# Altium integrated library Analog Devices Data Converters Digital-to-Analog Converters.IntLib: 2231 symbols (part 68 of 181)
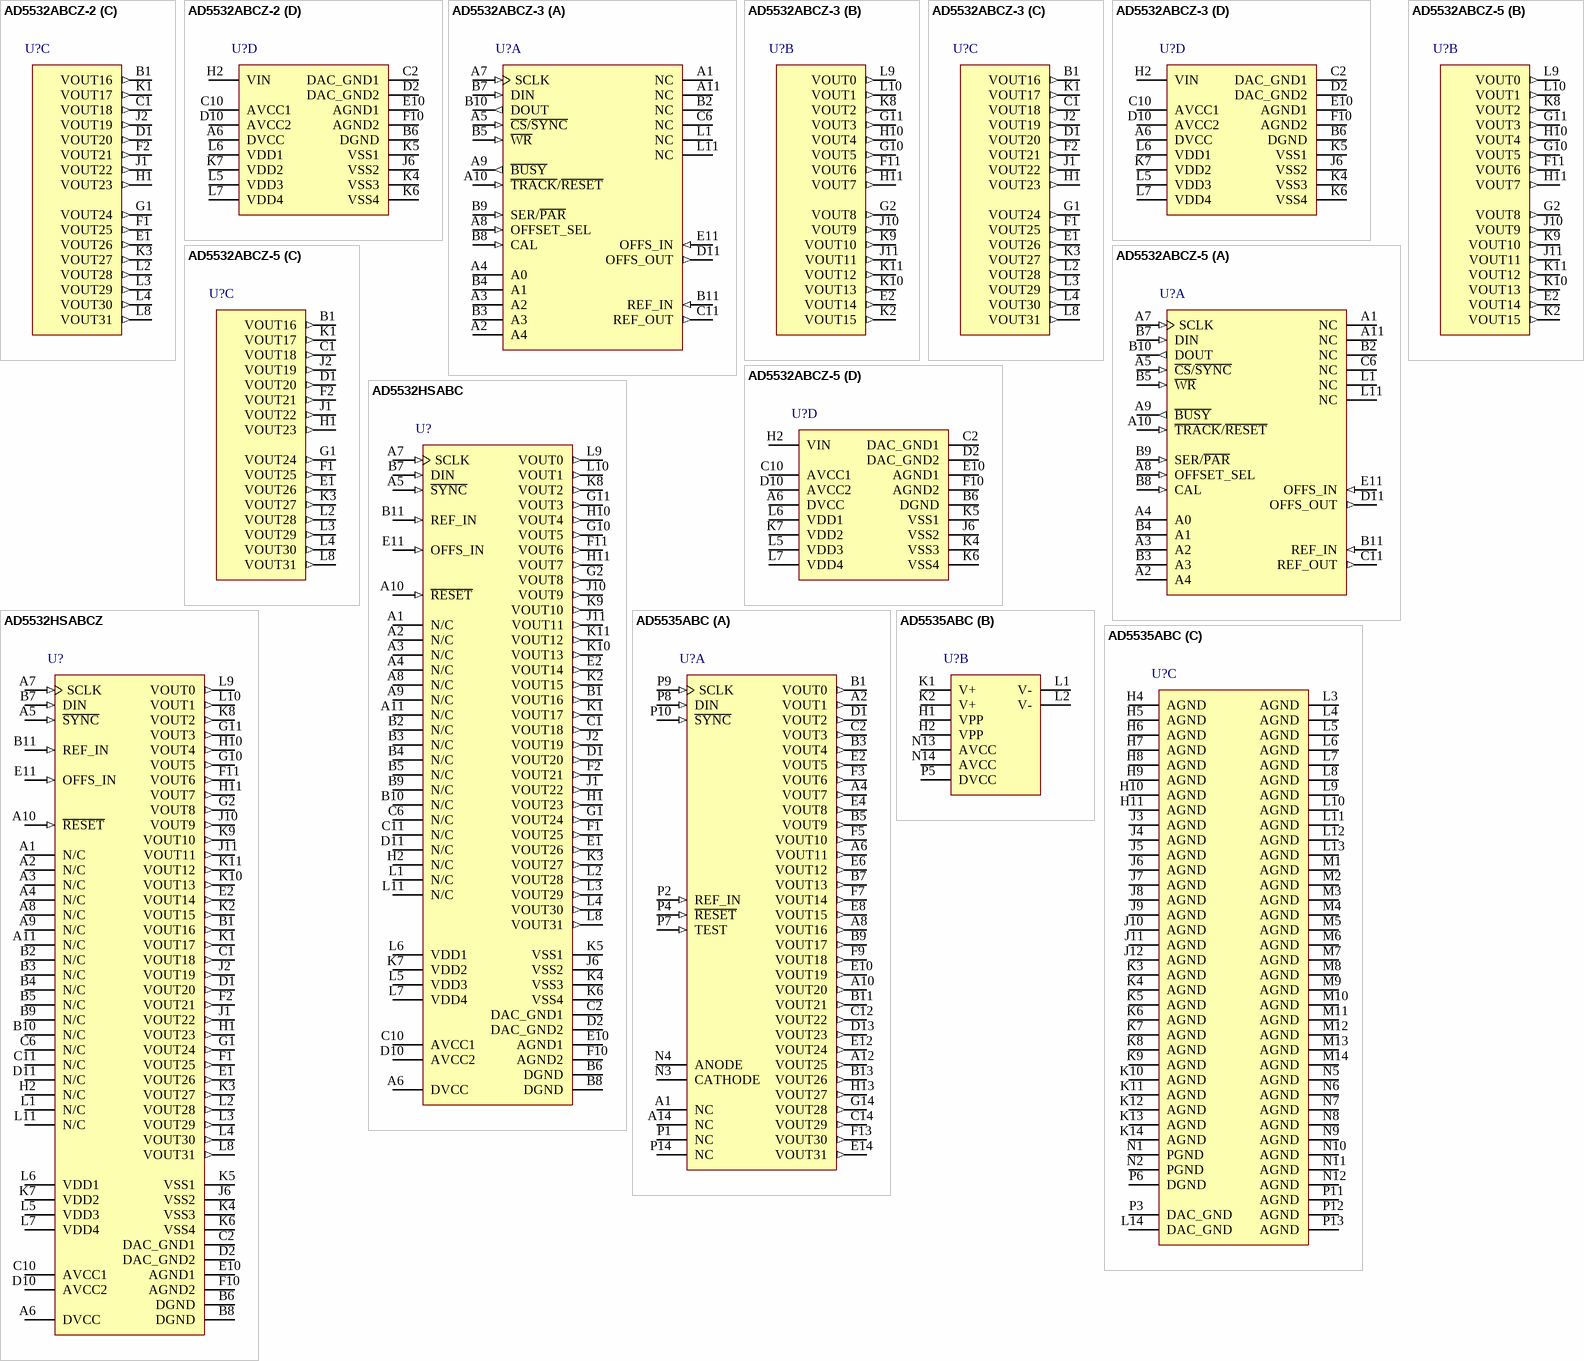
[diagram p181: symbols AD5532ABCZ-2 to AD5535ABC]

## AD5532HSABCZ
designator U?
32 Channel 14-Bit Digital-to-Analog Converter with High-Speed 3-Wire Serial Interface, -40 to +85 degC, BC-74, Pb-Free, Tray; Generic Part Number: AD5532HS; Manufacturer: Analog Devices; PartNumber: AD5532HSABCZ; # DAC Outputs: 32; Max V+: 12V; Op Pwr Diss: 341mW; Resolution (Bits): 14; Settling Time: 10µs; Single Supply: No; DatasheetVersion: Rev.0; PackageVersion: 061306-A; PackageReference: BC-74; PackageDescription: 74-Ball Chip Scale Package Ball Grid Array [CSP_BGA]; Supplier 1: Digi-Key; Supplier Part Number 1: AD5532HSABCZ-ND; Supplier 2: Newark; Supplier Part Number 2: 12M8551; Supplier 3: Mouser; Supplier Part Number 3: 584-AD5532HSABCZ; Packing: Tray; RoHS: Y; Mounting Technology: Surface Mount; Code_JEDEC: MO-192-ABD-1; ComponentLink1Description: Manufacturer URL; ComponentLink1URL: http://www.analog.com/en/index.html; ComponentLink2Description: Datasheet; ComponentLink2URL: http://www.analog.com/static/imported-files/data_sheets/AD5532HS.pdf; ComponentLink3Description: Package Specification; ComponentLink3URL: http://www.analog.com/static/imported-files/packages/466795438540441203902150BC_74.pdf; ComponentLink4Description: Product URL; ComponentLink4URL: http://www.analog.com/en/digital-to-analog-converters/da-converters/ad5532hs/products/product.html
footprint BC-74 (BGA, 74-Leads, Body 12x12mm, Pitch 1mm)
pins: A1  N/C "No connect", A2  N/C "No connect", A3  N/C "No connect", A4  N/C "No connect", A5  ~{SYNC} (in) "Active Low Input. This is the Frame Synchronization signal for the serial interface. While S\Y\N\C\ is low,data is transferred in on the falling edge of SCLK.", A6  DVCC (power) "Digital Supply Pins. Voltage range from 2.7 V to 5.25 V.", A7  SCLK (in) "Serial Clock Input. Data is clocked into the shift register on the falling edge of SCLK. This operates at clock speeds up to 30 MHz.", A8  N/C "No connect", A9  N/C "No connect", A10  ~{RESET} (in) "Active Low Input. This pin can also be used to reset the complete device to its power-on-reset conditions.", A11  N/C "No connect", B1  VOUT16 (out) "Analog Output Voltage from the 32 Channels.", B2  N/C "No connect", B3  N/C "No connect", B4  N/C "No connect", B5  N/C "No connect", B6  DGND (power) "Digital GND Pin.", B7  DIN (in) "Serial Data Input. Data must be valid on the falling edge of SCLK.", B8  DGND (power) "Digital GND Pin.", B9  N/C "No connect", B10  N/C "No connect", B11  REF_IN (in) "Reference Voltage for Channels 0-31.", C1  VOUT18 (out) "Analog Output Voltage from the 32 Channels.", C2  DAC_GND1 (power) "Reference GND Supply for All the DACs.", C6  N/C "No connect", C10  AVCC1 (power) "Analog Supply Pin. Voltage range from 4.75 V to 5.25 V.", C11  N/C "No connect", D1  VOUT20 (out) "Analog Output Voltage from the 32 Channels.", D2  DAC_GND2 (power) "Reference GND Supply for All the DACs.", D10  AVCC2 (power) "Analog Supply Pin. Voltage range from 4.75 V to 5.25 V.", D11  N/C "No connect", E1  VOUT26 (out) "Analog Output Voltage from the 32 Channels.", E2  VOUT14 (out) "Analog Output Voltage from the 32 Channels.", E10  AGND1 (power) "Analog GND Pin.", E11  OFFS_IN (in) "Offset Input. The user can connect this to GND or REF_IN to determine the output span.", F1  VOUT25 (out) "Analog Output Voltage from the 32 Channels.", F2  VOUT21 (out) "Analog Output Voltage from the 32 Channels.", F10  AGND2 (power) "Analog GND Pin.", F11  VOUT6 (out) "Analog Output Voltage from the 32 Channels.", G1  VOUT24 (out) "Analog Output Voltage from the 32 Channels.", G2  VOUT8 (out) "Analog Output Voltage from the 32 Channels.", G10  VOUT5 (out) "Analog Output Voltage from the 32 Channels.", G11  VOUT3 (out) "Analog Output Voltage from the 32 Channels.", H1  VOUT23 (out) "Analog Output Voltage from the 32 Channels.", H2  N/C "No connect", H10  VOUT4 (out) "Analog Output Voltage from the 32 Channels.", H11  VOUT7 (out) "Analog Output Voltage from the 32 Channels.", J1  VOUT22 (out) "Analog Output Voltage from the 32 Channels.", J2  VOUT19 (out) "Analog Output Voltage from the 32 Channels.", J6  VSS2 (power) "VSS Supply Pin. Voltage range from -4.75 V to -12 V.", J10  VOUT9 (out) "Analog Output Voltage from the 32 Channels.", J11  VOUT11 (out) "Analog Output Voltage from the 32 Channels.", K1  VOUT17 (out) "Analog Output Voltage from the 32 Channels.", K2  VOUT15 (out) "Analog Output Voltage from the 32 Channels.", K3  VOUT27 (out) "Analog Output Voltage from the 32 Channels.", K4  VSS3 (power) "VSS Supply Pin. Voltage range from -4.75 V to -12 V.", K5  VSS1 (power) "VSS Supply Pin. Voltage range from -4.75 V to -12 V.", K6  VSS4 (power) "VSS Supply Pin. Voltage range from -4.75 V to -12 V.", K7  VDD2 (power) "VDD Supply Pin. Voltage range from 8 V to 12 V.", K8  VOUT2 (out) "Analog Output Voltage from the 32 Channels.", K9  VOUT10 (out) "Analog Output Voltage from the 32 Channels.", K10  VOUT13 (out) "Analog Output Voltage from the 32 Channels.", K11  VOUT12 (out) "Analog Output Voltage from the 32 Channels.", L1  N/C "No connect", L2  VOUT28 (out) "Analog Output Voltage from the 32 Channels.", L3  VOUT29 (out) "Analog Output Voltage from the 32 Channels.", L4  VOUT30 (out) "Analog Output Voltage from the 32 Channels.", L5  VDD3 (power) "VDD Supply Pin. Voltage range from 8 V to 12 V.", L6  VDD1 (power) "VDD Supply Pin. Voltage range from 8 V to 12 V.", L7  VDD4 (power) "VDD Supply Pin. Voltage range from 8 V to 12 V.", L8  VOUT31 (out) "Analog Output Voltage from the 32 Channels.", L9  VOUT0 (out) "Analog Output Voltage from the 32 Channels.", L10  VOUT1 (out) "Analog Output Voltage from the 32 Channels.", L11  N/C "No connect"

## AD5535ABC
designator U?
32 Channel 14-Bit Full-Scale Output Voltage Digital-to-Analog Converter, 50 to 200 V, -10 to +85 degC, BC-124-2, Tray; Generic Part Number: AD5535; Manufacturer: Analog Devices; PartNumber: AD5535ABC; # DAC Outputs: 32; Max V+: 5.25V; Op Pwr Diss: 787mW; Resolution (Bits): 14; Settling Time: 65µs; Single Supply: No; DatasheetVersion: Rev.A; PackageVersion: 012006-0; PackageReference: BC-124-2; PackageDescription: 124-Ball Chip Scale Package Ball Grid Array [CSP_BGA]; Supplier 1: Mouser; Supplier Part Number 1: N/A; Packing: Tray; RoHS: N; Mounting Technology: Surface Mount; Code_JEDEC: MO-192-AAE-1; ComponentLink1Description: Manufacturer URL; ComponentLink1URL: http://www.analog.com/en/index.html; ComponentLink2Description: Datasheet; ComponentLink2URL: http://www.analog.com/static/imported-files/data_sheets/AD5535.pdf; ComponentLink3Description: Package Specification; ComponentLink3URL: http://www.analog.com/static/imported-files/packages/PKG_PDF/CSPBGA%20(BC)/BC_124_2.pdf; ComponentLink4Description: Product URL; ComponentLink4URL: http://www.analog.com/en/digital-to-analog-converters/da-converters/ad5535/products/product.html
footprint BC-124-2 (BGA, 124-Leads, Body 15x15mm, Pitch 1mm)
part A pins: A1 NC "No connect pins. The user should not connect any signals to these pins.", A2 VOUT1 (out) "Analog Output Voltages from the 32 Channels.", A4 VOUT7 (out) "Analog Output Voltages from the 32 Channels.", A6 VOUT11 (out) "Analog Output Voltages from the 32 Channels.", A8 VOUT16 (out) "Analog Output Voltages from the 32 Channels.", A10 VOUT20 (out) "Analog Output Voltages from the 32 Channels.", A12 VOUT25 (out) "Analog Output Voltages from the 32 Channels.", A14 NC "No connect pins. The user should not connect any signals to these pins.", B1 VOUT0 (out) "Analog Output Voltages from the 32 Channels.", B3 VOUT4 (out) "Analog Output Voltages from the 32 Channels.", B5 VOUT9 (out) "Analog Output Voltages from the 32 Channels.", B7 VOUT13 (out) "Analog Output Voltages from the 32 Channels.", B9 VOUT17 (out) "Analog Output Voltages from the 32 Channels.", B11 VOUT21 (out) "Analog Output Voltages from the 32 Channels.", B13 VOUT26 (out) "Analog Output Voltages from the 32 Channels.", C2 VOUT3 (out) "Analog Output Voltages from the 32 Channels.", C12 VOUT22 (out) "Analog Output Voltages from the 32 Channels.", C14 VOUT29 (out) "Analog Output Voltages from the 32 Channels.", D1 VOUT2 (out) "Analog Output Voltages from the 32 Channels.", D13 VOUT23 (out) "Analog Output Voltages from the 32 Channels.", E2 VOUT5 (out) "Analog Output Voltages from the 32 Channels.", E4 VOUT8 (out) "Analog Output Voltages from the 32 Channels.", E6 VOUT12 (out) "Analog Output Voltages from the 32 Channels.", E8 VOUT15 (out) "Analog Output Voltages from the 32 Channels.", E10 VOUT19 (out) "Analog Output Voltages from the 32 Channels.", E12 VOUT24 (out) "Analog Output Voltages from the 32 Channels.", E14 VOUT31 (out) "Analog Output Voltages from the 32 Channels.", F3 VOUT6 (out) "Analog Output Voltages from the 32 Channels.", F5 VOUT10 (out) "Analog Output Voltages from the 32 Channels.", F7 VOUT14 (out) "Analog Output Voltages from the 32 Channels.", F9 VOUT18 (out) "Analog Output Voltages from the 32 Channels.", F13 VOUT30 (out) "Analog Output Voltages from the 32 Channels.", G14 VOUT28 (out) "Analog Output Voltages from the 32 Channels.", H13 VOUT27 (out) "Analog Output Voltages from the 32 Channels.", N3 CATHODE "Cathode of Internal Diode for Diode Temperature Measurement.", N4 ANODE "Anode of Internal Diode for Diode Temperature Measurement.", P1 NC "No connect pins. The user should not connect any signals to these pins.", P2 REF_IN (in) "Reference Voltage for Channel 0 to Channel 31. Reference input range is 1 V to 4 V and can be used to program the full-scale output voltage from 50 V to 200 V.", P4 ~{RESET} (in) "Active Low Input. This pin can also be used to reset the complete device to its power-on reset conditions. Zero code is loaded to the DACs.", P7 TEST (in) "Allows the same data to be simultaneously loaded to all channels of the AD5535. This pin is used for calibration purposes when loading zero scale and full scale to all channels. To invoke this feature, bring the TEST pin (See Datasheet)", P8 DIN (in) "Serial Data Input. Data must be valid upon the falling edge of SCLK.", P9 SCLK (in) "Serial Clock Input. Data is clocked into the shift register upon the falling edge of SCLK. This operates at clock speeds of up to 30 MHz.", P10 ~{SYNC} (in) "Active Low Input. This is the frame synchronization signal for the serial interface. While S\Y\N\C\ is low, data is transferred in upon the falling edge of SCLK.", P14 NC "No connect pins. The user should not connect any signals to these pins."
part B pins: H1 VPP (power) "Output Amplifier High Voltage Supply. Voltage range from (REF_IN x 50) + 10 V to 225 V.", H2 VPP (power) "Output Amplifier High Voltage Supply. Voltage range from (REF_IN x 50) + 10 V to 225 V.", K1 V+ (power) "V+ Amplifier Supply Pins. Voltage range from 4.75 V to 5.25 V.", K2 V+ (power) "V+ Amplifier Supply Pins. Voltage range from 4.75 V to 5.25 V.", L1 V- (power) "V- Amplifier Supply Pins. Voltage range from -4.75 V to -5.25 V.", L2 V- (power) "V- Amplifier Supply Pins. Voltage range from -4.75 V to -5.25 V.", N13 AVCC (power) "Analog Supply Pins. Voltage range from 4.75 V to 5.25 V.", N14 AVCC (power) "Analog Supply Pins. Voltage range from 4.75 V to 5.25 V.", P5 DVCC (power) "Digital Supply Pins. Voltage range from 2.7 V to 5.25 V."
part C pins: H4 AGND (power) "Analog GND Pin.", H5 AGND (power) "Analog GND Pin.", H6 AGND (power) "Analog GND Pin.", H7 AGND (power) "Analog GND Pin.", H8 AGND (power) "Analog GND Pin.", H9 AGND (power) "Analog GND Pin.", H10 AGND (power) "Analog GND Pin.", H11 AGND (power) "Analog GND Pin.", J3 AGND (power) "Analog GND Pin.", J4 AGND (power) "Analog GND Pin.", J5 AGND (power) "Analog GND Pin.", J6 AGND (power) "Analog GND Pin.", J7 AGND (power) "Analog GND Pin.", J8 AGND (power) "Analog GND Pin.", J9 AGND (power) "Analog GND Pin.", J10 AGND (power) "Analog GND Pin.", J11 AGND (power) "Analog GND Pin.", J12 AGND (power) "Analog GND Pin.", K3 AGND (power) "Analog GND Pin.", K4 AGND (power) "Analog GND Pin.", K5 AGND (power) "Analog GND Pin.", K6 AGND (power) "Analog GND Pin.", K7 AGND (power) "Analog GND Pin.", K8 AGND (power) "Analog GND Pin.", K9 AGND (power) "Analog GND Pin.", K10 AGND (power) "Analog GND Pin.", K11 AGND (power) "Analog GND Pin.", K12 AGND (power) "Analog GND Pin.", K13 AGND (power) "Analog GND Pin.", K14 AGND (power) "Analog GND Pin.", L3 AGND (power) "Analog GND Pin.", L4 AGND (power) "Analog GND Pin.", L5 AGND (power) "Analog GND Pin.", L6 AGND (power) "Analog GND Pin.", L7 AGND (power) "Analog GND Pin.", L8 AGND (power) "Analog GND Pin.", L9 AGND (power) "Analog GND Pin.", L10 AGND (power) "Analog GND Pin.", L11 AGND (power) "Analog GND Pin.", L12 AGND (power) "Analog GND Pin.", L13 AGND (power) "Analog GND Pin.", L14 DAC_GND (power) "Reference GND Supply for All DACs.", M1 AGND (power) "Analog GND Pin.", M2 AGND (power) "Analog GND Pin.", M3 AGND (power) "Analog GND Pin.", M4 AGND (power) "Analog GND Pin.", M5 AGND (power) "Analog GND Pin.", M6 AGND (power) "Analog GND Pin.", M7 AGND (power) "Analog GND Pin.", M8 AGND (power) "Analog GND Pin.", M9 AGND (power) "Analog GND Pin.", M10 AGND (power) "Analog GND Pin.", M11 AGND (power) "Analog GND Pin.", M12 AGND (power) "Analog GND Pin.", M13 AGND (power) "Analog GND Pin.", M14 AGND (power) "Analog GND Pin.", N1 PGND (power) "Output Amplifier Ground Reference Pins.", N2 PGND (power) "Output Amplifier Ground Reference Pins.", N5 AGND (power) "Analog GND Pin.", N6 AGND (power) "Analog GND Pin.", N7 AGND (power) "Analog GND Pin.", N8 AGND (power) "Analog GND Pin.", N9 AGND (power) "Analog GND Pin.", N10 AGND (power) "Analog GND Pin.", N11 AGND (power) "Analog GND Pin.", N12 AGND (power) "Analog GND Pin.", P3 DAC_GND (power) "Reference GND Supply for All DACs.", P6 DGND (power) "Digital GND Pin.", P11 AGND (power) "Analog GND Pin.", P12 AGND (power) "Analog GND Pin.", P13 AGND (power) "Analog GND Pin."

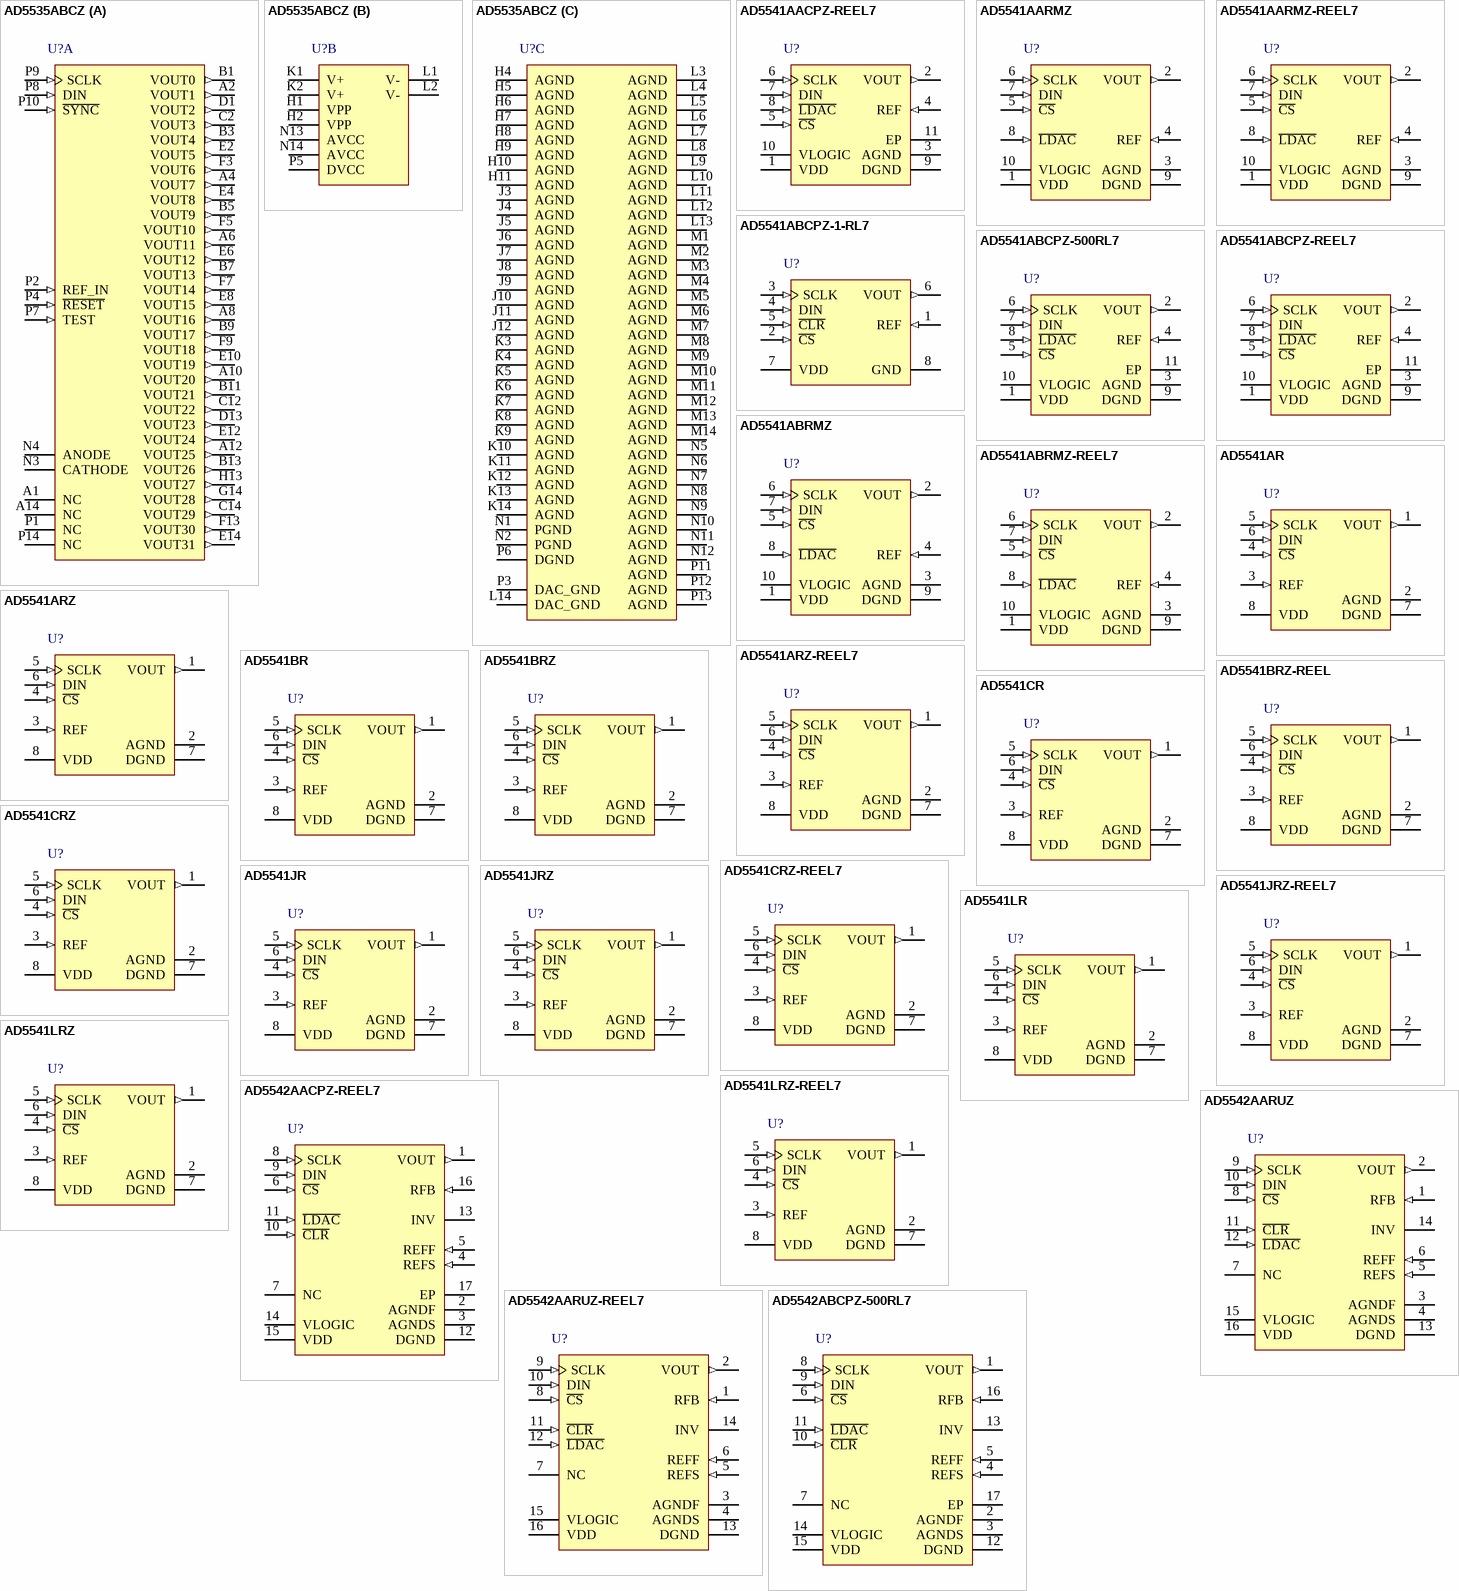
[diagram p38: symbols AD5535ABCZ to AD5542ABCPZ-500RL7]

## AD5535ABCZ
designator U?
32 Channel 14-Bit Full-Scale Output Voltage Digital-to-Analog Converter, 50 to 200 V, -10 to +85 degC, BC-124-2, Pb-Free, Tray; Generic Part Number: AD5535; Manufacturer: Analog Devices; PartNumber: AD5535ABCZ; # DAC Outputs: 32; Max V+: 5.25V; Op Pwr Diss: 787mW; Resolution (Bits): 14; Settling Time: 65µs; Single Supply: No; DatasheetVersion: Rev.A; PackageVersion: 012006-0; PackageReference: BC-124-2; PackageDescription: 124-Ball Chip Scale Package Ball Grid Array [CSP_BGA]; Supplier 1: Digi-Key; Supplier Part Number 1: AD5535ABCZ-ND; Supplier 2: Newark; Supplier Part Number 2: 59K4204; Supplier 3: Mouser; Supplier Part Number 3: 584-AD5535ABCZ; Packing: Tray; RoHS: Y; Mounting Technology: Surface Mount; Code_JEDEC: MO-192-AAE-1; ComponentLink1Description: Manufacturer URL; ComponentLink1URL: http://www.analog.com/en/index.html; ComponentLink2Description: Datasheet; ComponentLink2URL: http://www.analog.com/static/imported-files/data_sheets/AD5535.pdf; ComponentLink3Description: Package Specification; ComponentLink3URL: http://www.analog.com/static/imported-files/packages/PKG_PDF/CSPBGA%20(BC)/BC_124_2.pdf; ComponentLink4Description: Product URL; ComponentLink4URL: http://www.analog.com/en/digital-to-analog-converters/da-converters/ad5535/products/product.html
footprint BC-124-2 (BGA, 124-Leads, Body 15x15mm, Pitch 1mm)
part A pins: A1 NC "No connect pins. The user should not connect any signals to these pins.", A2 VOUT1 (out) "Analog Output Voltages from the 32 Channels.", A4 VOUT7 (out) "Analog Output Voltages from the 32 Channels.", A6 VOUT11 (out) "Analog Output Voltages from the 32 Channels.", A8 VOUT16 (out) "Analog Output Voltages from the 32 Channels.", A10 VOUT20 (out) "Analog Output Voltages from the 32 Channels.", A12 VOUT25 (out) "Analog Output Voltages from the 32 Channels.", A14 NC "No connect pins. The user should not connect any signals to these pins.", B1 VOUT0 (out) "Analog Output Voltages from the 32 Channels.", B3 VOUT4 (out) "Analog Output Voltages from the 32 Channels.", B5 VOUT9 (out) "Analog Output Voltages from the 32 Channels.", B7 VOUT13 (out) "Analog Output Voltages from the 32 Channels.", B9 VOUT17 (out) "Analog Output Voltages from the 32 Channels.", B11 VOUT21 (out) "Analog Output Voltages from the 32 Channels.", B13 VOUT26 (out) "Analog Output Voltages from the 32 Channels.", C2 VOUT3 (out) "Analog Output Voltages from the 32 Channels.", C12 VOUT22 (out) "Analog Output Voltages from the 32 Channels.", C14 VOUT29 (out) "Analog Output Voltages from the 32 Channels.", D1 VOUT2 (out) "Analog Output Voltages from the 32 Channels.", D13 VOUT23 (out) "Analog Output Voltages from the 32 Channels.", E2 VOUT5 (out) "Analog Output Voltages from the 32 Channels.", E4 VOUT8 (out) "Analog Output Voltages from the 32 Channels.", E6 VOUT12 (out) "Analog Output Voltages from the 32 Channels.", E8 VOUT15 (out) "Analog Output Voltages from the 32 Channels.", E10 VOUT19 (out) "Analog Output Voltages from the 32 Channels.", E12 VOUT24 (out) "Analog Output Voltages from the 32 Channels.", E14 VOUT31 (out) "Analog Output Voltages from the 32 Channels.", F3 VOUT6 (out) "Analog Output Voltages from the 32 Channels.", F5 VOUT10 (out) "Analog Output Voltages from the 32 Channels.", F7 VOUT14 (out) "Analog Output Voltages from the 32 Channels.", F9 VOUT18 (out) "Analog Output Voltages from the 32 Channels.", F13 VOUT30 (out) "Analog Output Voltages from the 32 Channels.", G14 VOUT28 (out) "Analog Output Voltages from the 32 Channels.", H13 VOUT27 (out) "Analog Output Voltages from the 32 Channels.", N3 CATHODE "Cathode of Internal Diode for Diode Temperature Measurement.", N4 ANODE "Anode of Internal Diode for Diode Temperature Measurement.", P1 NC "No connect pins. The user should not connect any signals to these pins.", P2 REF_IN (in) "Reference Voltage for Channel 0 to Channel 31. Reference input range is 1 V to 4 V and can be used to program the full-scale output voltage from 50 V to 200 V.", P4 ~{RESET} (in) "Active Low Input. This pin can also be used to reset the complete device to its power-on reset conditions. Zero code is loaded to the DACs.", P7 TEST (in) "Allows the same data to be simultaneously loaded to all channels of the AD5535. This pin is used for calibration purposes when loading zero scale and full scale to all channels. To invoke this feature, bring the TEST pin (See Datasheet)", P8 DIN (in) "Serial Data Input. Data must be valid upon the falling edge of SCLK.", P9 SCLK (in) "Serial Clock Input. Data is clocked into the shift register upon the falling edge of SCLK. This operates at clock speeds of up to 30 MHz.", P10 ~{SYNC} (in) "Active Low Input. This is the frame synchronization signal for the serial interface. While S\Y\N\C\ is low, data is transferred in upon the falling edge of SCLK.", P14 NC "No connect pins. The user should not connect any signals to these pins."
part B pins: H1 VPP (power) "Output Amplifier High Voltage Supply. Voltage range from (REF_IN x 50) + 10 V to 225 V.", H2 VPP (power) "Output Amplifier High Voltage Supply. Voltage range from (REF_IN x 50) + 10 V to 225 V.", K1 V+ (power) "V+ Amplifier Supply Pins. Voltage range from 4.75 V to 5.25 V.", K2 V+ (power) "V+ Amplifier Supply Pins. Voltage range from 4.75 V to 5.25 V.", L1 V- (power) "V- Amplifier Supply Pins. Voltage range from -4.75 V to -5.25 V.", L2 V- (power) "V- Amplifier Supply Pins. Voltage range from -4.75 V to -5.25 V.", N13 AVCC (power) "Analog Supply Pins. Voltage range from 4.75 V to 5.25 V.", N14 AVCC (power) "Analog Supply Pins. Voltage range from 4.75 V to 5.25 V.", P5 DVCC (power) "Digital Supply Pins. Voltage range from 2.7 V to 5.25 V."
part C pins: H4 AGND (power) "Analog GND Pin.", H5 AGND (power) "Analog GND Pin.", H6 AGND (power) "Analog GND Pin.", H7 AGND (power) "Analog GND Pin.", H8 AGND (power) "Analog GND Pin.", H9 AGND (power) "Analog GND Pin.", H10 AGND (power) "Analog GND Pin.", H11 AGND (power) "Analog GND Pin.", J3 AGND (power) "Analog GND Pin.", J4 AGND (power) "Analog GND Pin.", J5 AGND (power) "Analog GND Pin.", J6 AGND (power) "Analog GND Pin.", J7 AGND (power) "Analog GND Pin.", J8 AGND (power) "Analog GND Pin.", J9 AGND (power) "Analog GND Pin.", J10 AGND (power) "Analog GND Pin.", J11 AGND (power) "Analog GND Pin.", J12 AGND (power) "Analog GND Pin.", K3 AGND (power) "Analog GND Pin.", K4 AGND (power) "Analog GND Pin.", K5 AGND (power) "Analog GND Pin.", K6 AGND (power) "Analog GND Pin.", K7 AGND (power) "Analog GND Pin.", K8 AGND (power) "Analog GND Pin.", K9 AGND (power) "Analog GND Pin.", K10 AGND (power) "Analog GND Pin.", K11 AGND (power) "Analog GND Pin.", K12 AGND (power) "Analog GND Pin.", K13 AGND (power) "Analog GND Pin.", K14 AGND (power) "Analog GND Pin.", L3 AGND (power) "Analog GND Pin.", L4 AGND (power) "Analog GND Pin.", L5 AGND (power) "Analog GND Pin.", L6 AGND (power) "Analog GND Pin.", L7 AGND (power) "Analog GND Pin.", L8 AGND (power) "Analog GND Pin.", L9 AGND (power) "Analog GND Pin.", L10 AGND (power) "Analog GND Pin.", L11 AGND (power) "Analog GND Pin.", L12 AGND (power) "Analog GND Pin.", L13 AGND (power) "Analog GND Pin.", L14 DAC_GND (power) "Reference GND Supply for All DACs.", M1 AGND (power) "Analog GND Pin.", M2 AGND (power) "Analog GND Pin.", M3 AGND (power) "Analog GND Pin.", M4 AGND (power) "Analog GND Pin.", M5 AGND (power) "Analog GND Pin.", M6 AGND (power) "Analog GND Pin.", M7 AGND (power) "Analog GND Pin.", M8 AGND (power) "Analog GND Pin.", M9 AGND (power) "Analog GND Pin.", M10 AGND (power) "Analog GND Pin.", M11 AGND (power) "Analog GND Pin.", M12 AGND (power) "Analog GND Pin.", M13 AGND (power) "Analog GND Pin.", M14 AGND (power) "Analog GND Pin.", N1 PGND (power) "Output Amplifier Ground Reference Pins.", N2 PGND (power) "Output Amplifier Ground Reference Pins.", N5 AGND (power) "Analog GND Pin.", N6 AGND (power) "Analog GND Pin.", N7 AGND (power) "Analog GND Pin.", N8 AGND (power) "Analog GND Pin.", N9 AGND (power) "Analog GND Pin.", N10 AGND (power) "Analog GND Pin.", N11 AGND (power) "Analog GND Pin.", N12 AGND (power) "Analog GND Pin.", P3 DAC_GND (power) "Reference GND Supply for All DACs.", P6 DGND (power) "Digital GND Pin.", P11 AGND (power) "Analog GND Pin.", P12 AGND (power) "Analog GND Pin.", P13 AGND (power) "Analog GND Pin."

## AD5541AACPZ-REEL7
designator U?
Single 16-Bit Voltage Output Digital-to-Analog Converter with Serial Interface, 2.7 to 5.5 V, -40 to +125 degC, CP-10-9, Pb-Free, Reel; Generic Part Number: AD5541A; Manufacturer: Analog Devices; PartNumber: AD5541AACPZ-REEL7; # DAC Outputs: 1; Max V+: 5.5V; Op Pwr Diss: 600µW; Resolution (Bits): 16; Settling Time: 1µs; Single Supply: Yes; DatasheetVersion: Rev.A; PackageVersion: 02-27-2012-B; PackageReference: CP-10-9; PackageDescription: 10-Lead Lead Frame Chip Scale Package [LFCSP_WD] 3 x 3 mm Body, Very Very Thin, Dual Lead; Supplier 1: Digi-Key; Supplier Part Number 1: AD5541AACPZ-REEL7TR-ND; Supplier 2: Digi-Key; Supplier Part Number 2: AD5541AACPZ-REEL7CT-ND; Supplier 3: Digi-Key; Supplier Part Number 3: AD5541AACPZ-REEL7DKR-ND; Supplier 4: Farnell; Supplier Part Number 4: 2102384; Supplier 5: Newark; Supplier Part Number 5: 92T3208; Supplier 6: Newark; Supplier Part Number 6: 91R2575; Supplier 7: Mouser; Supplier Part Number 7: 584-AD5541AACPZ-R7; Packing: Reel; RoHS: Y; Mounting Technology: Surface Mount; ComponentLink1Description: Manufacturer URL; ComponentLink1URL: http://www.analog.com/en/index.html; ComponentLink2Description: Datasheet; ComponentLink2URL: http://www.analog.com/static/imported-files/data_sheets/AD5541A.pdf; ComponentLink3Description: Package Specification; ComponentLink3URL: http://www.analog.com/static/imported-files/packages/CP_10_9.pdf; ComponentLink4Description: Product URL; ComponentLink4URL: http://www.analog.com/en/digital-to-analog-converters/da-converters/ad5541a/products/product.html
footprint CP-10-9_N (SON, 10-Leads, Body 3x3mm, Pitch 0.5mm, Thermal Pad 2.35x1.6mm, IPC Medium Density)
footprint CP-10-9_L (SON, 10-Leads, Body 3x3mm, Pitch 0.5mm, Thermal Pad 2.35x1.6mm, IPC High Density)
footprint CP-10-9_M (SON, 10-Leads, Body 3x3mm, Pitch 0.5mm, Thermal Pad 2.35x1.6mm, IPC Low Density)
pins: 1 VDD (power) "Analog Supply Voltage.", 2 VOUT (out) "Analog Output Voltage from the DAC.", 3 AGND (power) "Ground Reference Point for Analog Circuitry.", 4 REF (in) "Voltage Reference Input for the DAC. Connect to an external 2.5 V reference. The reference can range from 2 V to VDD.", 5 ~{CS} (in) "Logic Input Signal. The chip select signal is used to frame the serial data input.", 6 SCLK (in) "Clock Input. Data is clocked into the serial input register on the rising edge of SCLK. Duty cycle must be between 40% and 60%.", 7 DIN (in) "Serial Data Input. This device accepts 16-bit words. Data is clocked into the serial input register on the rising edge of SCLK.", 8 ~{LDAC} (in) "L\D\A\C\ Input. When this input is taken low, the DAC register is simultaneously updated with the contents of the serial input register.", 9 DGND (power) "Digital Ground. Ground reference for digital circuitry.", 10 VLOGIC (power) "Logic Power Supply.", 11 EP (power) "Exposed Pad. For increased reliability of the solder joints and maximum thermal capability, it is recommended that the pad be soldered to the substrate, GND."

## AD5541AARMZ
designator U?
Single 16-Bit Voltage Output Digital-to-Analog Converter with Serial Interface, 2.7 to 5.5 V, -40 to +125 degC, RM-10, Pb-Free, Tube; Generic Part Number: AD5541A; Manufacturer: Analog Devices; PartNumber: AD5541AARMZ; # DAC Outputs: 1; Max V+: 5.5V; Op Pwr Diss: 600µW; Resolution (Bits): 16; Settling Time: 1µs; Single Supply: Yes; DatasheetVersion: Rev.A; PackageVersion: May-2005; PackageReference: RM-10; PackageDescription: 10-Lead Mini Small Outline Package [MSOP]; Supplier 1: Digi-Key; Supplier Part Number 1: AD5541AARMZ-ND; Supplier 2: Farnell; Supplier Part Number 2: 2096192; Supplier 3: Newark; Supplier Part Number 3: 83R9350; Supplier 4: Mouser; Supplier Part Number 4: 584-AD5541AARMZ; Packing: Tube; RoHS: Y; Mounting Technology: Surface Mount; ComponentLink1Description: Manufacturer URL; ComponentLink1URL: http://www.analog.com/en/index.html; ComponentLink2Description: Datasheet; ComponentLink2URL: http://www.analog.com/static/imported-files/data_sheets/AD5541A.pdf; ComponentLink3Description: Package Specification; ComponentLink3URL: http://www.analog.com/static/imported-files/packages/PKG_PDF/MSOP%28RM%29/RM_10.pdf; ComponentLink4Description: Product URL; ComponentLink4URL: http://www.analog.com/en/digital-to-analog-converters/da-converters/ad5541a/products/product.html
footprint RM-10_N (TSSOP, 10-Leads, Body 3x3mm, Pitch 0.5mm, IPC Medium Density)
footprint RM-10_L (TSSOP, 10-Leads, Body 3x3mm, Pitch 0.5mm, IPC High Density)
footprint RM-10_M (TSSOP, 10-Leads, Body 3x3mm, Pitch 0.5mm, IPC Low Density)
pins: 1 VDD (power) "Analog Supply Voltage.", 2 VOUT (out) "Analog Output Voltage from the DAC.", 3 AGND (power) "Ground Reference Point for Analog Circuitry.", 4 REF (in) "Voltage Reference Input for the DAC. Connect to an external 2.5 V reference. The reference can range from 2 V to VDD.", 5 ~{CS} (in) "Logic Input Signal. The chip select signal is used to frame the serial data input.", 6 SCLK (in) "Clock Input. Data is clocked into the serial input register on the rising edge of SCLK. The duty cycle must be between 40% and 60%.", 7 DIN (in) "Serial Data Input. This device accepts 16-bit words. Data is clocked into the serial input register on the rising edge of SCLK.", 8 ~{LDAC} (in) "L\D\A\C\ Input. When this input is taken low, the DAC register is simultaneously updated with the contents of the serial register data.", 9 DGND (power) "Digital Ground. Ground reference for digital circuitry.", 10 VLOGIC (power) "Logic Power Supply."

## AD5541AARMZ-REEL7
designator U?
Single 16-Bit Voltage Output Digital-to-Analog Converter with Serial Interface, 2.7 to 5.5 V, -40 to +125 degC, RM-10, Pb-Free, Reel; Generic Part Number: AD5541A; Manufacturer: Analog Devices; PartNumber: AD5541AARMZ-REEL7; # DAC Outputs: 1; Max V+: 5.5V; Op Pwr Diss: 600µW; Resolution (Bits): 16; Settling Time: 1µs; Single Supply: Yes; DatasheetVersion: Rev.A; PackageVersion: May-2005; PackageReference: RM-10; PackageDescription: 10-Lead Mini Small Outline Package [MSOP]; Supplier 1: Digi-Key; Supplier Part Number 1: AD5541AARMZ-REEL7-ND; Supplier 2: Mouser; Supplier Part Number 2: 584-AD5541AARMZ-R7; Packing: Reel; RoHS: Y; Mounting Technology: Surface Mount; ComponentLink1Description: Manufacturer URL; ComponentLink1URL: http://www.analog.com/en/index.html; ComponentLink2Description: Datasheet; ComponentLink2URL: http://www.analog.com/static/imported-files/data_sheets/AD5541A.pdf; ComponentLink3Description: Package Specification; ComponentLink3URL: http://www.analog.com/static/imported-files/packages/PKG_PDF/MSOP%28RM%29/RM_10.pdf; ComponentLink4Description: Product URL; ComponentLink4URL: http://www.analog.com/en/digital-to-analog-converters/da-converters/ad5541a/products/product.html
footprint RM-10_N (TSSOP, 10-Leads, Body 3x3mm, Pitch 0.5mm, IPC Medium Density)
footprint RM-10_L (TSSOP, 10-Leads, Body 3x3mm, Pitch 0.5mm, IPC High Density)
footprint RM-10_M (TSSOP, 10-Leads, Body 3x3mm, Pitch 0.5mm, IPC Low Density)
pins: 1 VDD (power) "Analog Supply Voltage.", 2 VOUT (out) "Analog Output Voltage from the DAC.", 3 AGND (power) "Ground Reference Point for Analog Circuitry.", 4 REF (in) "Voltage Reference Input for the DAC. Connect to an external 2.5 V reference. The reference can range from 2 V to VDD.", 5 ~{CS} (in) "Logic Input Signal. The chip select signal is used to frame the serial data input.", 6 SCLK (in) "Clock Input. Data is clocked into the serial input register on the rising edge of SCLK. The duty cycle must be between 40% and 60%.", 7 DIN (in) "Serial Data Input. This device accepts 16-bit words. Data is clocked into the serial input register on the rising edge of SCLK.", 8 ~{LDAC} (in) "L\D\A\C\ Input. When this input is taken low, the DAC register is simultaneously updated with the contents of the serial register data.", 9 DGND (power) "Digital Ground. Ground reference for digital circuitry.", 10 VLOGIC (power) "Logic Power Supply."

## AD5541ABCPZ-1-RL7
designator U?
Single 16-Bit Voltage Output Digital-to-Analog Converter with Serial Interface, 2.7 to 5.5 V, -40 to +125 degC, CP-8-11, Pb-Free, Reel; Generic Part Number: AD5541A; Manufacturer: Analog Devices; PartNumber: AD5541ABCPZ-1-RL7; # DAC Outputs: 1; Max V+: 5.5V; Op Pwr Diss: 600µW; Resolution (Bits): 16; Settling Time: 1µs; Single Supply: Yes; DatasheetVersion: Rev.A; PackageVersion: 111809-A; PackageReference: CP-8-11; PackageDescription: 8-Lead Lead Frame Chip Scale Package [LFCSP_WD] 3 x 3 mm Body, Very Very Thin, Dual Lead; Supplier 1: Digi-Key; Supplier Part Number 1: AD5541ABCPZ-1-RL7TR-ND; Supplier 2: Digi-Key; Supplier Part Number 2: AD5541ABCPZ-1-RL7CT-ND; Supplier 3: Digi-Key; Supplier Part Number 3: AD5541ABCPZ-1-RL7DKR-ND; Supplier 4: Farnell; Supplier Part Number 4: 2102386; Supplier 5: Newark; Supplier Part Number 5: 18T2121; Supplier 6: Newark; Supplier Part Number 6: 92T3210; Supplier 7: Mouser; Supplier Part Number 7: 584-AD5541ABCPZ-1-R7; Packing: Reel; RoHS: Y; Mounting Technology: Surface Mount; Code_JEDEC: MO-229-WEED; ComponentLink1Description: Manufacturer URL; ComponentLink1URL: http://www.analog.com/en/index.html; ComponentLink2Description: Datasheet; ComponentLink2URL: http://www.analog.com/static/imported-files/data_sheets/AD5541A.pdf; ComponentLink3Description: Package Specification; ComponentLink3URL: http://www.analog.com/static/imported-files/packages/PKG_PDF/LFCSP(CP)/CP_8_11.pdf; ComponentLink4Description: Product URL; ComponentLink4URL: http://www.analog.com/en/digital-to-analog-converters/da-converters/ad5541a/products/product.html
footprint CP-8-11_N (SON, 8-Leads, Body 3x3mm, Pitch 0.5mm, Thermal Pad 2.44x1.7mm, IPC Medium Density)
footprint CP-8-11_L (SON, 8-Leads, Body 3x3mm, Pitch 0.5mm, Thermal Pad 2.44x1.7mm, IPC High Density)
footprint CP-8-11_M (SON, 8-Leads, Body 3x3mm, Pitch 0.5mm, Thermal Pad 2.44x1.7mm, IPC Low Density)
pins: 1 REF (in) "Voltage Reference Input for the DAC. Connect to an external 2.5 V reference. The reference can range from 2 V to VDD.", 2 ~{CS} (in) "Logic Input Signal. The chip select signal is used to frame the serial data input.", 3 SCLK (in) "Clock Input. Data is clocked into the serial input register on the rising edge of SCLK. Duty cycle must be between 40% and 60%.", 4 DIN (in) "Serial Data Input. This device accepts 16-bit words. Data is clocked into the serial input register on the rising edge of SCLK.", 5 ~{CLR} (in) "Asynchronous Clear Input. The C\L\R\ input is falling edge sensitive. When C\L\R\ is low, all L\D\A\C\ pulses are ignored. When C\L\R\ is activated, the serial input register and the DAC register are cleared to zero scale.", 6 VOUT (out) "Analog Output Voltage from the DAC.", 7 VDD (power) "Analog Supply Voltage.", 8 GND (power) "Ground Reference Point for Both Analog and Digital Circuitry."

## AD5541ABCPZ-500RL7
designator U?
Single 16-Bit Voltage Output Digital-to-Analog Converter with Serial Interface, 2.7 to 5.5 V, -40 to +125 degC, CP-10-9, Pb-Free, Reel; Generic Part Number: AD5541A; Manufacturer: Analog Devices; PartNumber: AD5541ABCPZ-500RL7; # DAC Outputs: 1; Max V+: 5.5V; Op Pwr Diss: 600µW; Resolution (Bits): 16; Settling Time: 1µs; Single Supply: Yes; DatasheetVersion: Rev.A; PackageVersion: 02-27-2012-B; PackageReference: CP-10-9; PackageDescription: 10-Lead Lead Frame Chip Scale Package [LFCSP_WD] 3 x 3 mm Body, Very Very Thin, Dual Lead; Supplier 1: Mouser; Supplier Part Number 1: N/A; Packing: Reel; RoHS: Y; Mounting Technology: Surface Mount; ComponentLink1Description: Manufacturer URL; ComponentLink1URL: http://www.analog.com/en/index.html; ComponentLink2Description: Datasheet; ComponentLink2URL: http://www.analog.com/static/imported-files/data_sheets/AD5541A.pdf; ComponentLink3Description: Package Specification; ComponentLink3URL: http://www.analog.com/static/imported-files/packages/CP_10_9.pdf; ComponentLink4Description: Product URL; ComponentLink4URL: http://www.analog.com/en/digital-to-analog-converters/da-converters/ad5541a/products/product.html
footprint CP-10-9_N (SON, 10-Leads, Body 3x3mm, Pitch 0.5mm, Thermal Pad 2.35x1.6mm, IPC Medium Density)
footprint CP-10-9_L (SON, 10-Leads, Body 3x3mm, Pitch 0.5mm, Thermal Pad 2.35x1.6mm, IPC High Density)
footprint CP-10-9_M (SON, 10-Leads, Body 3x3mm, Pitch 0.5mm, Thermal Pad 2.35x1.6mm, IPC Low Density)
pins: 1 VDD (power) "Analog Supply Voltage.", 2 VOUT (out) "Analog Output Voltage from the DAC.", 3 AGND (power) "Ground Reference Point for Analog Circuitry.", 4 REF (in) "Voltage Reference Input for the DAC. Connect to an external 2.5 V reference. The reference can range from 2 V to VDD.", 5 ~{CS} (in) "Logic Input Signal. The chip select signal is used to frame the serial data input.", 6 SCLK (in) "Clock Input. Data is clocked into the serial input register on the rising edge of SCLK. Duty cycle must be between 40% and 60%.", 7 DIN (in) "Serial Data Input. This device accepts 16-bit words. Data is clocked into the serial input register on the rising edge of SCLK.", 8 ~{LDAC} (in) "L\D\A\C\ Input. When this input is taken low, the DAC register is simultaneously updated with the contents of the serial input register.", 9 DGND (power) "Digital Ground. Ground reference for digital circuitry.", 10 VLOGIC (power) "Logic Power Supply.", 11 EP (power) "Exposed Pad. For increased reliability of the solder joints and maximum thermal capability, it is recommended that the pad be soldered to the substrate, GND."

## AD5541ABCPZ-REEL7
designator U?
Single 16-Bit Voltage Output Digital-to-Analog Converter with Serial Interface, 2.7 to 5.5 V, -40 to +125 degC, CP-10-9, Pb-Free, Reel; Generic Part Number: AD5541A; Manufacturer: Analog Devices; PartNumber: AD5541ABCPZ-REEL7; # DAC Outputs: 1; Max V+: 5.5V; Op Pwr Diss: 600µW; Resolution (Bits): 16; Settling Time: 1µs; Single Supply: Yes; DatasheetVersion: Rev.A; PackageVersion: 02-27-2012-B; PackageReference: CP-10-9; PackageDescription: 10-Lead Lead Frame Chip Scale Package [LFCSP_WD] 3 x 3 mm Body, Very Very Thin, Dual Lead; Supplier 1: Digi-Key; Supplier Part Number 1: AD5541ABCPZ-REEL7TR-ND; Supplier 2: Digi-Key; Supplier Part Number 2: AD5541ABCPZ-REEL7CT-ND; Supplier 3: Digi-Key; Supplier Part Number 3: AD5541ABCPZ-REEL7DKR-ND; Supplier 4: Farnell; Supplier Part Number 4: 2102385; Supplier 5: Newark; Supplier Part Number 5: 92T3209; Supplier 6: Newark; Supplier Part Number 6: 91R2576; Supplier 7: Mouser; Supplier Part Number 7: 584-AD5541ABCPZ-R7; Packing: Reel; RoHS: Y; Mounting Technology: Surface Mount; ComponentLink1Description: Manufacturer URL; ComponentLink1URL: http://www.analog.com/en/index.html; ComponentLink2Description: Datasheet; ComponentLink2URL: http://www.analog.com/static/imported-files/data_sheets/AD5541A.pdf; ComponentLink3Description: Package Specification; ComponentLink3URL: http://www.analog.com/static/imported-files/packages/CP_10_9.pdf; ComponentLink4Description: Product URL; ComponentLink4URL: http://www.analog.com/en/digital-to-analog-converters/da-converters/ad5541a/products/product.html
footprint CP-10-9_N (SON, 10-Leads, Body 3x3mm, Pitch 0.5mm, Thermal Pad 2.35x1.6mm, IPC Medium Density)
footprint CP-10-9_L (SON, 10-Leads, Body 3x3mm, Pitch 0.5mm, Thermal Pad 2.35x1.6mm, IPC High Density)
footprint CP-10-9_M (SON, 10-Leads, Body 3x3mm, Pitch 0.5mm, Thermal Pad 2.35x1.6mm, IPC Low Density)
pins: 1 VDD (power) "Analog Supply Voltage.", 2 VOUT (out) "Analog Output Voltage from the DAC.", 3 AGND (power) "Ground Reference Point for Analog Circuitry.", 4 REF (in) "Voltage Reference Input for the DAC. Connect to an external 2.5 V reference. The reference can range from 2 V to VDD.", 5 ~{CS} (in) "Logic Input Signal. The chip select signal is used to frame the serial data input.", 6 SCLK (in) "Clock Input. Data is clocked into the serial input register on the rising edge of SCLK. Duty cycle must be between 40% and 60%.", 7 DIN (in) "Serial Data Input. This device accepts 16-bit words. Data is clocked into the serial input register on the rising edge of SCLK.", 8 ~{LDAC} (in) "L\D\A\C\ Input. When this input is taken low, the DAC register is simultaneously updated with the contents of the serial input register.", 9 DGND (power) "Digital Ground. Ground reference for digital circuitry.", 10 VLOGIC (power) "Logic Power Supply.", 11 EP (power) "Exposed Pad. For increased reliability of the solder joints and maximum thermal capability, it is recommended that the pad be soldered to the substrate, GND."

## AD5541ABRMZ
designator U?
Single 16-Bit Voltage Output Digital-to-Analog Converter with Serial Interface, 2.7 to 5.5 V, -40 to +125 degC, RM-10, Pb-Free, Tube; Generic Part Number: AD5541A; Manufacturer: Analog Devices; PartNumber: AD5541ABRMZ; # DAC Outputs: 1; Max V+: 5.5V; Op Pwr Diss: 600µW; Resolution (Bits): 16; Settling Time: 1µs; Single Supply: Yes; DatasheetVersion: Rev.A; PackageVersion: May-2005; PackageReference: RM-10; PackageDescription: 10-Lead Mini Small Outline Package [MSOP]; Supplier 1: Digi-Key; Supplier Part Number 1: AD5541ABRMZ-ND; Supplier 2: Farnell; Supplier Part Number 2: 1843653; Supplier 3: Newark; Supplier Part Number 3: 83R9352; Supplier 4: Mouser; Supplier Part Number 4: 584-AD5541ABRMZ; Packing: Tube; RoHS: Y; Mounting Technology: Surface Mount; ComponentLink1Description: Manufacturer URL; ComponentLink1URL: http://www.analog.com/en/index.html; ComponentLink2Description: Datasheet; ComponentLink2URL: http://www.analog.com/static/imported-files/data_sheets/AD5541A.pdf; ComponentLink3Description: Package Specification; ComponentLink3URL: http://www.analog.com/static/imported-files/packages/PKG_PDF/MSOP%28RM%29/RM_10.pdf; ComponentLink4Description: Product URL; ComponentLink4URL: http://www.analog.com/en/digital-to-analog-converters/da-converters/ad5541a/products/product.html
footprint RM-10_N (TSSOP, 10-Leads, Body 3x3mm, Pitch 0.5mm, IPC Medium Density)
footprint RM-10_L (TSSOP, 10-Leads, Body 3x3mm, Pitch 0.5mm, IPC High Density)
footprint RM-10_M (TSSOP, 10-Leads, Body 3x3mm, Pitch 0.5mm, IPC Low Density)
pins: 1 VDD (power) "Analog Supply Voltage.", 2 VOUT (out) "Analog Output Voltage from the DAC.", 3 AGND (power) "Ground Reference Point for Analog Circuitry.", 4 REF (in) "Voltage Reference Input for the DAC. Connect to an external 2.5 V reference. The reference can range from 2 V to VDD.", 5 ~{CS} (in) "Logic Input Signal. The chip select signal is used to frame the serial data input.", 6 SCLK (in) "Clock Input. Data is clocked into the serial input register on the rising edge of SCLK. The duty cycle must be between 40% and 60%.", 7 DIN (in) "Serial Data Input. This device accepts 16-bit words. Data is clocked into the serial input register on the rising edge of SCLK.", 8 ~{LDAC} (in) "L\D\A\C\ Input. When this input is taken low, the DAC register is simultaneously updated with the contents of the serial register data.", 9 DGND (power) "Digital Ground. Ground reference for digital circuitry.", 10 VLOGIC (power) "Logic Power Supply."

## AD5541ABRMZ-REEL7
designator U?
Single 16-Bit Voltage Output Digital-to-Analog Converter with Serial Interface, 2.7 to 5.5 V, -40 to +125 degC, RM-10, Pb-Free, Reel; Generic Part Number: AD5541A; Manufacturer: Analog Devices; PartNumber: AD5541ABRMZ-REEL7; # DAC Outputs: 1; Max V+: 5.5V; Op Pwr Diss: 600µW; Resolution (Bits): 16; Settling Time: 1µs; Single Supply: Yes; DatasheetVersion: Rev.A; PackageVersion: May-2005; PackageReference: RM-10; PackageDescription: 10-Lead Mini Small Outline Package [MSOP]; Supplier 1: Digi-Key; Supplier Part Number 1: AD5541ABRMZ-REEL7-ND; Supplier 2: Mouser; Supplier Part Number 2: 584-AD5541ABRMZ-R7; Packing: Reel; RoHS: Y; Mounting Technology: Surface Mount; ComponentLink1Description: Manufacturer URL; ComponentLink1URL: http://www.analog.com/en/index.html; ComponentLink2Description: Datasheet; ComponentLink2URL: http://www.analog.com/static/imported-files/data_sheets/AD5541A.pdf; ComponentLink3Description: Package Specification; ComponentLink3URL: http://www.analog.com/static/imported-files/packages/PKG_PDF/MSOP%28RM%29/RM_10.pdf; ComponentLink4Description: Product URL; ComponentLink4URL: http://www.analog.com/en/digital-to-analog-converters/da-converters/ad5541a/products/product.html
footprint RM-10_N (TSSOP, 10-Leads, Body 3x3mm, Pitch 0.5mm, IPC Medium Density)
footprint RM-10_L (TSSOP, 10-Leads, Body 3x3mm, Pitch 0.5mm, IPC High Density)
footprint RM-10_M (TSSOP, 10-Leads, Body 3x3mm, Pitch 0.5mm, IPC Low Density)
pins: 1 VDD (power) "Analog Supply Voltage.", 2 VOUT (out) "Analog Output Voltage from the DAC.", 3 AGND (power) "Ground Reference Point for Analog Circuitry.", 4 REF (in) "Voltage Reference Input for the DAC. Connect to an external 2.5 V reference. The reference can range from 2 V to VDD.", 5 ~{CS} (in) "Logic Input Signal. The chip select signal is used to frame the serial data input.", 6 SCLK (in) "Clock Input. Data is clocked into the serial input register on the rising edge of SCLK. The duty cycle must be between 40% and 60%.", 7 DIN (in) "Serial Data Input. This device accepts 16-bit words. Data is clocked into the serial input register on the rising edge of SCLK.", 8 ~{LDAC} (in) "L\D\A\C\ Input. When this input is taken low, the DAC register is simultaneously updated with the contents of the serial register data.", 9 DGND (power) "Digital Ground. Ground reference for digital circuitry.", 10 VLOGIC (power) "Logic Power Supply."

## AD5541AR
designator U?
Single 16-Bit Digital-to-Analog Converter with Serial Interface, 2.7 to 5.5 V, -40 to +85 degC, R-8, Tube; Generic Part Number: AD5541; Manufacturer: Analog Devices; PartNumber: AD5541AR; # DAC Outputs: 1; Max V+: 5.5V; Op Pwr Diss: 6.05mW; Resolution (Bits): 16; Settling Time: 1µs; Single Supply: Yes; DatasheetVersion: Rev.F; PackageVersion: 060506-A; PackageReference: R-8; PackageDescription: 8-Lead Standard Small Outline Package [SOIC_N] Narrow Body; Supplier 1: Digi-Key; Supplier Part Number 1: AD5541AR-ND; Supplier 2: Mouser; Supplier Part Number 2: 584-AD5541AR; Packing: Tube; RoHS: N; Mounting Technology: Surface Mount; Code_JEDEC: MS-012-AA; Code_IPC: SOIC127P600-8; ComponentLink1Description: Manufacturer URL; ComponentLink1URL: http://www.analog.com/en/index.html; ComponentLink2Description: Datasheet; ComponentLink2URL: http://www.analog.com/static/imported-files/data_sheets/AD5541_5542.pdf; ComponentLink3Description: Package Specification; ComponentLink3URL: http://www.analog.com/static/imported-files/packages/PKG_PDF/SOIC_Narrow%20(R)/R_8.pdf; ComponentLink4Description: Product URL; ComponentLink4URL: http://www.analog.com/en/digital-to-analog-converters/da-converters/ad5541/products/product.html; ComponentLink5Description: Reference Design URL; ComponentLink5URL: http://www.analog.com/en/digital-to-analog-converters/da-converters/ad5541/products/product.html#prod_cross_sell
footprint R-8_N (SOIC, 8-Leads, Body 4.9x3.9mm, Pitch 1.27mm, IPC Medium Density)
footprint R-8_L (SOIC, 8-Leads, Body 4.9x3.9mm, Pitch 1.27mm, IPC High Density)
footprint R-8_M (SOIC, 8-Leads, Body 4.9x3.9mm, Pitch 1.27mm, IPC Low Density)
pins: 1 VOUT (out) "Analog Output Voltage from the DAC.", 2 AGND (power) "Ground Reference Point for Analog Circuitry.", 3 REF (in) "Voltage Reference Input for the DAC. Connect to an external 2.5 V reference. Reference can range from 2 V to VDD.", 4 ~{CS} (in) "Logic Input Signal. The chip select signal is used to frame the serial data input.", 5 SCLK (in) "Clock Input. Data is clocked into the input register on the rising edge of SCLK. Duty cycle must be between 40% and 60%.", 6 DIN (in) "Serial Data Input. This device accepts 16-bit words. Data is clocked into the input register on the rising edge of SCLK.", 7 DGND (power) "Digital Ground. Ground reference for digital circuitry.", 8 VDD (power) "Analog Supply Voltage, 5 V +/- 10%."

## AD5541ARZ
designator U?
Single 16-Bit Digital-to-Analog Converter with Serial Interface, 2.7 to 5.5 V, -40 to +85 degC, R-8, Pb-Free, Tube; Generic Part Number: AD5541; Manufacturer: Analog Devices; PartNumber: AD5541ARZ; # DAC Outputs: 1; Max V+: 5.5V; Op Pwr Diss: 6.05mW; Resolution (Bits): 16; Settling Time: 1µs; Single Supply: Yes; DatasheetVersion: Rev.F; PackageVersion: 060506-A; PackageReference: R-8; PackageDescription: 8-Lead Standard Small Outline Package [SOIC_N] Narrow Body; Supplier 1: Digi-Key; Supplier Part Number 1: AD5541ARZ-ND; Supplier 2: Farnell; Supplier Part Number 2: 1838895; Supplier 3: Newark; Supplier Part Number 3: 19M8816; Supplier 4: Mouser; Supplier Part Number 4: 584-AD5541ARZ; Packing: Tube; RoHS: Y; Mounting Technology: Surface Mount; Code_JEDEC: MS-012-AA; Code_IPC: SOIC127P600-8; ComponentLink1Description: Manufacturer URL; ComponentLink1URL: http://www.analog.com/en/index.html; ComponentLink2Description: Datasheet; ComponentLink2URL: http://www.analog.com/static/imported-files/data_sheets/AD5541_5542.pdf; ComponentLink3Description: Package Specification; ComponentLink3URL: http://www.analog.com/static/imported-files/packages/PKG_PDF/SOIC_Narrow%20(R)/R_8.pdf; ComponentLink4Description: Product URL; ComponentLink4URL: http://www.analog.com/en/digital-to-analog-converters/da-converters/ad5541/products/product.html; ComponentLink5Description: Reference Design URL; ComponentLink5URL: http://www.analog.com/en/digital-to-analog-converters/da-converters/ad5541/products/product.html#prod_cross_sell
footprint R-8_N (SOIC, 8-Leads, Body 4.9x3.9mm, Pitch 1.27mm, IPC Medium Density)
footprint R-8_L (SOIC, 8-Leads, Body 4.9x3.9mm, Pitch 1.27mm, IPC High Density)
footprint R-8_M (SOIC, 8-Leads, Body 4.9x3.9mm, Pitch 1.27mm, IPC Low Density)
pins: 1 VOUT (out) "Analog Output Voltage from the DAC.", 2 AGND (power) "Ground Reference Point for Analog Circuitry.", 3 REF (in) "Voltage Reference Input for the DAC. Connect to an external 2.5 V reference. Reference can range from 2 V to VDD.", 4 ~{CS} (in) "Logic Input Signal. The chip select signal is used to frame the serial data input.", 5 SCLK (in) "Clock Input. Data is clocked into the input register on the rising edge of SCLK. Duty cycle must be between 40% and 60%.", 6 DIN (in) "Serial Data Input. This device accepts 16-bit words. Data is clocked into the input register on the rising edge of SCLK.", 7 DGND (power) "Digital Ground. Ground reference for digital circuitry.", 8 VDD (power) "Analog Supply Voltage, 5 V +/- 10%."